# Altium schematic symbol library ADC101C021CIMKX_NOPB.SchLib: 1 symbol
Pins are listed as number, name and electrical type; pins without a type are passive.

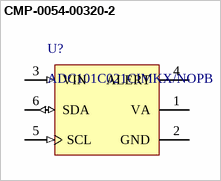
[diagram p0: symbol CMP-0054-00320-2]

## CMP-0054-00320-2
designator U?, comment ADC101C021CIMKX/NOPB
I2C-Compatible, 10-Bit Analog-to-Digital Converter (ADC) with Alert Pin, 6-pin Tiny SOT23, Pb-Free; Manufacturer: National Semiconductor; PackageTopMarking: X33C*XTT; PowerWise: N; CompType: ADC IC; DatasheetVersion: Mar-2009; PackageVersion: revE, Nov-2008; ComponentLink1Description: ADC101C021 Datasheet; ComponentLink3URL: http://www.national.com/packaging/folders/mk06a.html; Code_IPC: SOT26A-6; ComponentLink3Description: MK06A Package Page; PackageDescription: Molded TSOT, 2.97 x 1.65 x 0.87mm Body, 6 Lead, 0.95mm Pitch; RoHS: Y; RevisionNote: Component URLs added; ComponentLink1URL: http://www.national.com/ds/AD/ADC101C021.pdf; PinCount: 6; PackageReference: MK06A; Code_JEDEC: MO-193-AA; ComponentLink2Description: ADC101C021 Web Page; ComponentLink2URL: http://www.national.com/pf/AD/ADC101C021.html
footprint MK06A_L (SOT23, 6-Leads, Body 3.0x1.7mm, Pitch 0.95mm, Lead Span 2.9mm, IPC High Density)
footprint MK06A_N (SOT23, 6-Leads, Body 3.0x1.7mm, Pitch 0.95mm, Lead Span 2.9mm, IPC Medium Density)
footprint MK06A_M (SOT23, 6-Leads, Body 3.0x1.7mm, Pitch 0.95mm, Lead Span 2.9mm, IPC Low Density)
pins: 1 VA (power), 2 GND (power), 3 VIN (in), 4 ALERT (oc), 5 SCL (in), 6 SDA (io)